# Altium schematic symbol library Schlib Resistencias.SchLib: 107 symbols
Pins are listed as number, name and electrical type; pins without a type are passive.

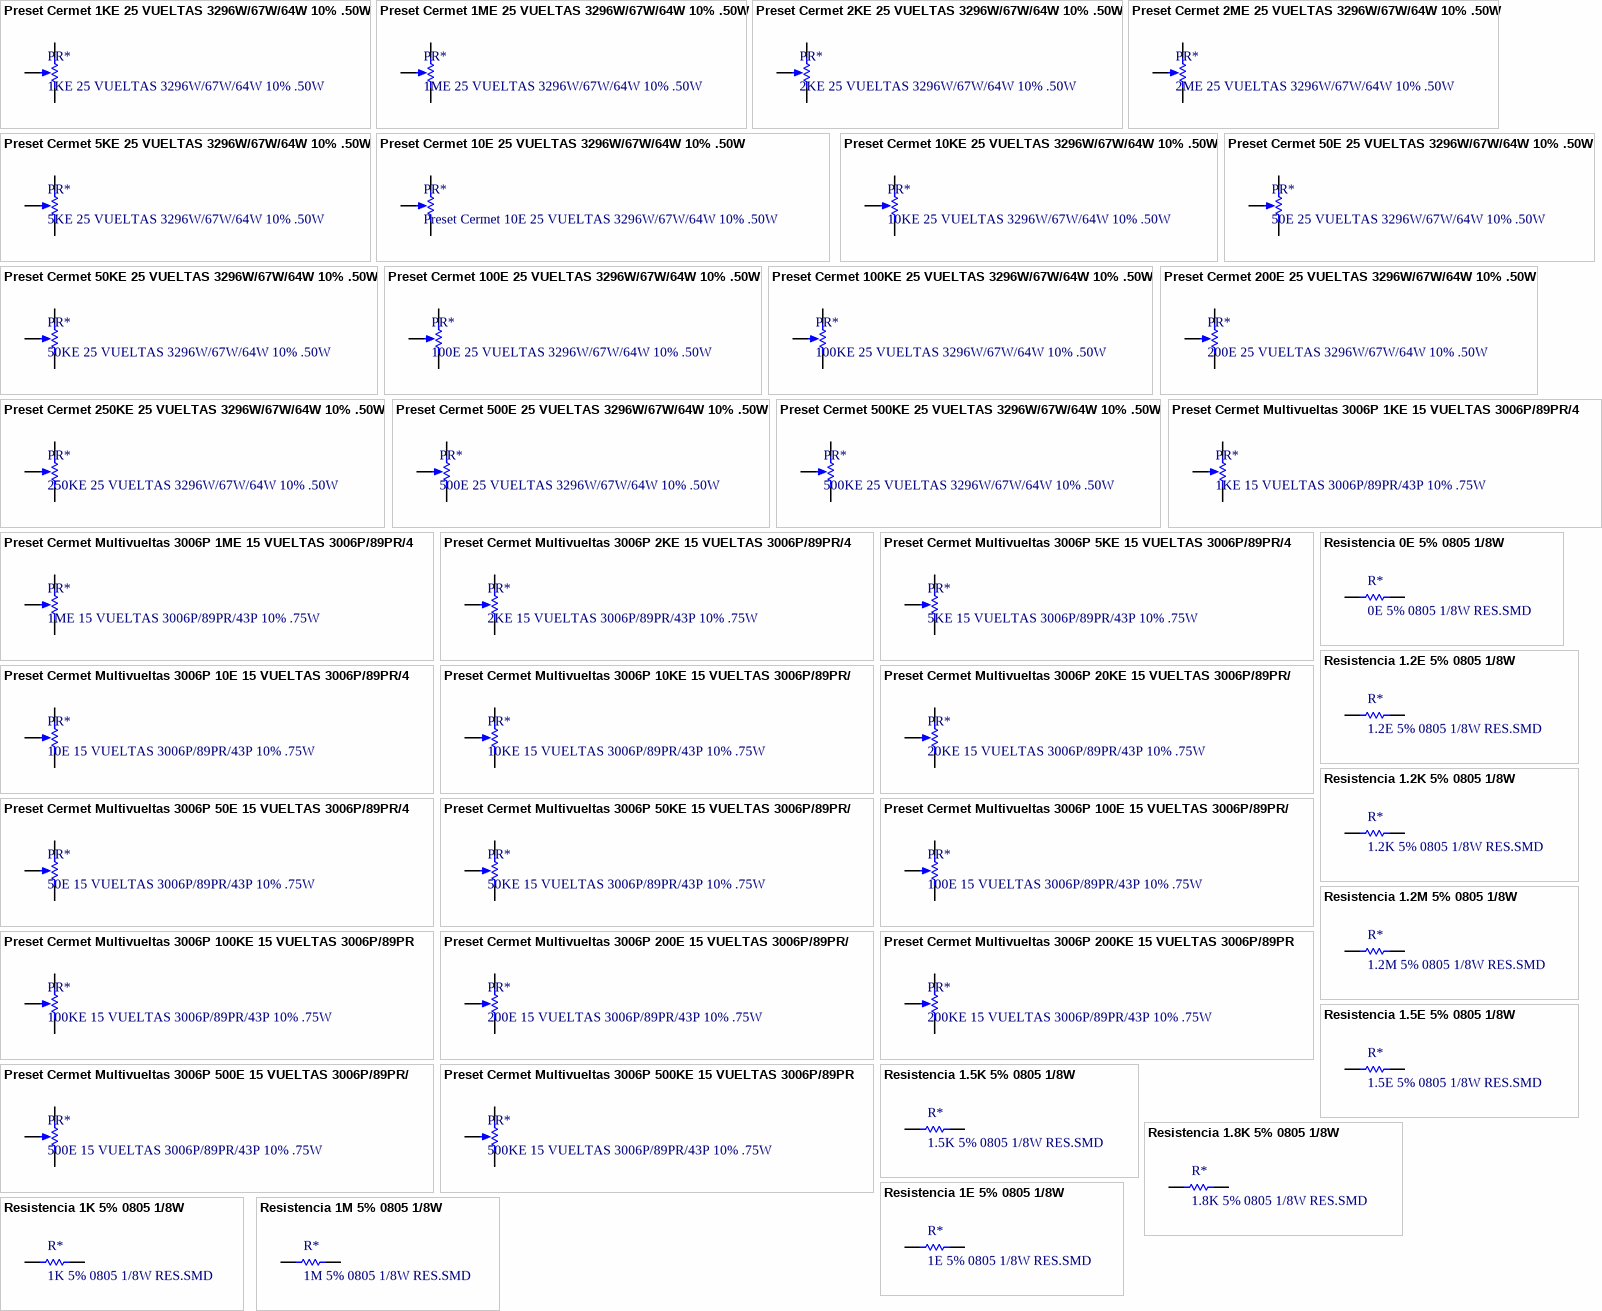
[diagram p0: symbols Preset Cermet 1KE 25 VUELTAS 3296W/67W/64W 10% .50W to Resistencia 1M 5% 0805 1/8W]

## Preset Cermet 1KE 25 VUELTAS 3296W/67W/64W 10% .50W
designator PR*, comment 1KE 25 VUELTAS 3296W/67W/64W 10% .50W
COD. ELEMON: PR4316060
footprint Preset Cermet 3296
pins: 1 CCW, 2 Wiper, 3 CW

## Preset Cermet 1ME 25 VUELTAS 3296W/67W/64W 10% .50W
designator PR*, comment 1ME 25 VUELTAS 3296W/67W/64W 10% .50W
COD. ELEMON: PR4316150
footprint Preset Cermet 3296
pins: 1 CCW, 2 Wiper, 3 CW

## Preset Cermet 2KE 25 VUELTAS 3296W/67W/64W 10% .50W
designator PR*, comment 2KE 25 VUELTAS 3296W/67W/64W 10% .50W
COD. ELEMON: PR4316070
footprint Preset Cermet 3296
pins: 1 CCW, 2 Wiper, 3 CW

## Preset Cermet 2ME 25 VUELTAS 3296W/67W/64W 10% .50W
designator PR*, comment 2ME 25 VUELTAS 3296W/67W/64W 10% .50W
COD. ELEMON: PR4316160
footprint Preset Cermet 3296
pins: 1 CCW, 2 Wiper, 3 CW

## Preset Cermet 5KE 25 VUELTAS 3296W/67W/64W 10% .50W
designator PR*, comment 5KE 25 VUELTAS 3296W/67W/64W 10% .50W
COD. ELEMON: PR4316080
footprint Preset Cermet 3296
pins: 1 CCW, 2 Wiper, 3 CW

## Preset Cermet 10E 25 VUELTAS 3296W/67W/64W 10% .50W
designator PR*
10E 25 VUELTAS 3296W/67W/64W 10% .50W; COD. ELEMON: PR4316015
footprint Preset Cermet 3296
pins: 1 CCW, 2 Wiper, 3 CW

## Preset Cermet 10KE 25 VUELTAS 3296W/67W/64W 10% .50W
designator PR*, comment 10KE 25 VUELTAS 3296W/67W/64W 10% .50W
COD. ELEMON: PR4316090
footprint Preset Cermet 3296
pins: 1 CCW, 2 Wiper, 3 CW

## Preset Cermet 50E 25 VUELTAS 3296W/67W/64W 10% .50W
designator PR*, comment 50E 25 VUELTAS 3296W/67W/64W 10% .50W
COD. ELEMON: PR4316020
footprint Preset Cermet 3296
pins: 1 CCW, 2 Wiper, 3 CW

## Preset Cermet 50KE 25 VUELTAS 3296W/67W/64W 10% .50W
designator PR*, comment 50KE 25 VUELTAS 3296W/67W/64W 10% .50W
COD. ELEMON: PR4316110
footprint Preset Cermet 3296
pins: 1 CCW, 2 Wiper, 3 CW

## Preset Cermet 100E 25 VUELTAS 3296W/67W/64W 10% .50W
designator PR*, comment 100E 25 VUELTAS 3296W/67W/64W 10% .50W
COD. ELEMON: PR4316030
footprint Preset Cermet 3296
pins: 1 CCW, 2 Wiper, 3 CW

## Preset Cermet 100KE 25 VUELTAS 3296W/67W/64W 10% .50W
designator PR*, comment 100KE 25 VUELTAS 3296W/67W/64W 10% .50W
COD. ELEMON: PR4316120
footprint Preset Cermet 3296
pins: 1 CCW, 2 Wiper, 3 CW

## Preset Cermet 200E 25 VUELTAS 3296W/67W/64W 10% .50W
designator PR*, comment 200E 25 VUELTAS 3296W/67W/64W 10% .50W
COD. ELEMON: PR4316040
footprint Preset Cermet 3296
pins: 1 CCW, 2 Wiper, 3 CW

## Preset Cermet 250KE 25 VUELTAS 3296W/67W/64W 10% .50W
designator PR*, comment 250KE 25 VUELTAS 3296W/67W/64W 10% .50W
COD. ELEMON: PR4316130
footprint Preset Cermet 3296
pins: 1 CCW, 2 Wiper, 3 CW

## Preset Cermet 500E 25 VUELTAS 3296W/67W/64W 10% .50W
designator PR*, comment 500E 25 VUELTAS 3296W/67W/64W 10% .50W
COD. ELEMON: PR4316050
footprint Preset Cermet 3296
pins: 1 CCW, 2 Wiper, 3 CW

## Preset Cermet 500KE 25 VUELTAS 3296W/67W/64W 10% .50W
designator PR*, comment 500KE 25 VUELTAS 3296W/67W/64W 10% .50W
COD. ELEMON: PR4316140
footprint Preset Cermet 3296
pins: 1 CCW, 2 Wiper, 3 CW

## Preset Cermet Multivueltas 3006P 1KE 15 VUELTAS 3006P/89PR/43P 10% .75W
designator PR*, comment 1KE 15 VUELTAS 3006P/89PR/43P 10% .75W
COD. ELEMON: PR4306050
footprint RES-PRESET-3006P (PRESET CERMET 3006P)
pins: 1 CCW, 2 Wiper, 3 CW

## Preset Cermet Multivueltas 3006P 1ME 15 VUELTAS 3006P/89PR/43P 10% .75W
designator PR*, comment 1ME 15 VUELTAS 3006P/89PR/43P 10% .75W
COD. ELEMON: PR4306140
footprint RES-PRESET-3006P (PRESET CERMET 3006P)
pins: 1 CCW, 2 Wiper, 3 CW

## Preset Cermet Multivueltas 3006P 2KE 15 VUELTAS 3006P/89PR/43P 10% .75W
designator PR*, comment 2KE 15 VUELTAS 3006P/89PR/43P 10% .75W
COD. ELEMON: PR4306060
footprint RES-PRESET-3006P (PRESET CERMET 3006P)
pins: 1 CCW, 2 Wiper, 3 CW

## Preset Cermet Multivueltas 3006P 5KE 15 VUELTAS 3006P/89PR/43P 10% .75W
designator PR*, comment 5KE 15 VUELTAS 3006P/89PR/43P 10% .75W
COD. ELEMON: PR4306070
footprint RES-PRESET-3006P (PRESET CERMET 3006P)
pins: 1 CCW, 2 Wiper, 3 CW

## Preset Cermet Multivueltas 3006P 10E 15 VUELTAS 3006P/89PR/43P 10% .75W
designator PR*, comment 10E 15 VUELTAS 3006P/89PR/43P 10% .75W
COD. ELEMON: PR4306000
footprint RES-PRESET-3006P (PRESET CERMET 3006P)
pins: 1 CCW, 2 Wiper, 3 CW

## Preset Cermet Multivueltas 3006P 10KE 15 VUELTAS 3006P/89PR/43P 10% .75W
designator PR*, comment 10KE 15 VUELTAS 3006P/89PR/43P 10% .75W
COD. ELEMON: PR4306080
footprint RES-PRESET-3006P (PRESET CERMET 3006P)
pins: 1 CCW, 2 Wiper, 3 CW

## Preset Cermet Multivueltas 3006P 20KE 15 VUELTAS 3006P/89PR/43P 10% .75W
designator PR*, comment 20KE 15 VUELTAS 3006P/89PR/43P 10% .75W
COD. ELEMON: PR4306090
footprint RES-PRESET-3006P (PRESET CERMET 3006P)
pins: 1 CCW, 2 Wiper, 3 CW

## Preset Cermet Multivueltas 3006P 50E 15 VUELTAS 3006P/89PR/43P 10% .75W
designator PR*, comment 50E 15 VUELTAS 3006P/89PR/43P 10% .75W
COD. ELEMON: PR4306010
footprint RES-PRESET-3006P (PRESET CERMET 3006P)
pins: 1 CCW, 2 Wiper, 3 CW

## Preset Cermet Multivueltas 3006P 50KE 15 VUELTAS 3006P/89PR/43P 10% .75W
designator PR*, comment 50KE 15 VUELTAS 3006P/89PR/43P 10% .75W
COD. ELEMON: PR4306100
footprint RES-PRESET-3006P (PRESET CERMET 3006P)
pins: 1 CCW, 2 Wiper, 3 CW

## Preset Cermet Multivueltas 3006P 100E 15 VUELTAS 3006P/89PR/43P 10% .75W
designator PR*, comment 100E 15 VUELTAS 3006P/89PR/43P 10% .75W
COD. ELEMON: PR4306020
footprint RES-PRESET-3006P (PRESET CERMET 3006P)
pins: 1 CCW, 2 Wiper, 3 CW

## Preset Cermet Multivueltas 3006P 100KE 15 VUELTAS 3006P/89PR/43P 10% .75W
designator PR*, comment 100KE 15 VUELTAS 3006P/89PR/43P 10% .75W
COD. ELEMON: PR4306110
footprint RES-PRESET-3006P (PRESET CERMET 3006P)
pins: 1 CCW, 2 Wiper, 3 CW

## Preset Cermet Multivueltas 3006P 200E 15 VUELTAS 3006P/89PR/43P 10% .75W
designator PR*, comment 200E 15 VUELTAS 3006P/89PR/43P 10% .75W
COD. ELEMON: PR4306030
footprint RES-PRESET-3006P (PRESET CERMET 3006P)
pins: 1 CCW, 2 Wiper, 3 CW

## Preset Cermet Multivueltas 3006P 200KE 15 VUELTAS 3006P/89PR/43P 10% .75W
designator PR*, comment 200KE 15 VUELTAS 3006P/89PR/43P 10% .75W
COD. ELEMON: PR4306120
footprint RES-PRESET-3006P (PRESET CERMET 3006P)
pins: 1 CCW, 2 Wiper, 3 CW

## Preset Cermet Multivueltas 3006P 500E 15 VUELTAS 3006P/89PR/43P 10% .75W
designator PR*, comment 500E 15 VUELTAS 3006P/89PR/43P 10% .75W
COD. ELEMON: PR4306040
footprint RES-PRESET-3006P (PRESET CERMET 3006P)
pins: 1 CCW, 2 Wiper, 3 CW

## Preset Cermet Multivueltas 3006P 500KE 15 VUELTAS 3006P/89PR/43P 10% .75W
designator PR*, comment 500KE 15 VUELTAS 3006P/89PR/43P 10% .75W
COD. ELEMON: PR4306130
footprint RES-PRESET-3006P (PRESET CERMET 3006P)
pins: 1 CCW, 2 Wiper, 3 CW

## Resistencia 0E 5% 0805 1/8W
designator R*, comment 0E 5% 0805 1/8W RES.SMD
COD. ELEMON: RS3895900
footprint RES.SMD.000 (5% 0805 1/8W RES.SMD)
pins: 1, 2

## Resistencia 1.2E 5% 0805 1/8W
designator R*, comment 1.2E 5% 0805 1/8W RES.SMD
COD. ELEMON: RS3896010
footprint RES.SMD.1R2 (5% 0805 1/8W RES.SMD)
pins: 1, 2

## Resistencia 1.2K 5% 0805 1/8W
designator R*, comment 1.2K 5% 0805 1/8W RES.SMD
COD. ELEMON: RS3896190
footprint RES.SMD.122 (5% 0805 1/8W RES.SMD)
pins: 1, 2

## Resistencia 1.2M 5% 0805 1/8W
designator R*, comment 1.2M 5% 0805 1/8W RES.SMD
COD. ELEMON: RS3896370
footprint RES.SMD.125 (5% 0805 1/8W RES.SMD)
pins: 1, 2

## Resistencia 1.5E 5% 0805 1/8W
designator R*, comment 1.5E 5% 0805 1/8W RES.SMD
COD. ELEMON: RS3896015
footprint RES.SMD.1R5 (5% 0805 1/8W RES.SMD)
pins: 1, 2

## Resistencia 1.5K 5% 0805 1/8W
designator R*, comment 1.5K 5% 0805 1/8W RES.SMD
COD. ELEMON: RS3896195
footprint RES.SMD.152 (5% 0805 1/8W RES.SMD)
pins: 1, 2

## Resistencia 1.8K 5% 0805 1/8W
designator R*, comment 1.8K 5% 0805 1/8W RES.SMD
COD. ELEMON: RS3896200
footprint RES.SMD.182 (5% 0805 1/8W RES.SMD)
pins: 1, 2

## Resistencia 1E 5% 0805 1/8W
designator R*, comment 1E 5% 0805 1/8W RES.SMD
COD. ELEMON: RS3896005
footprint RES.SMD.1R0 (5% 0805 1/8W RES.SMD)
pins: 1, 2

## Resistencia 1K 5% 0805 1/8W
designator R*, comment 1K 5% 0805 1/8W RES.SMD
COD. ELEMON: RS3896185; COD. FV: CE.RES.0012
footprint RES.SMD.102 (5% 0805 1/8W RES.SMD)
pins: 1, 2

## Resistencia 1M 5% 0805 1/8W
designator R*, comment 1M 5% 0805 1/8W RES.SMD
COD. ELEMON: RS3896365
footprint RES.SMD.105 (5% 0805 1/8W RES.SMD)
pins: 1, 2

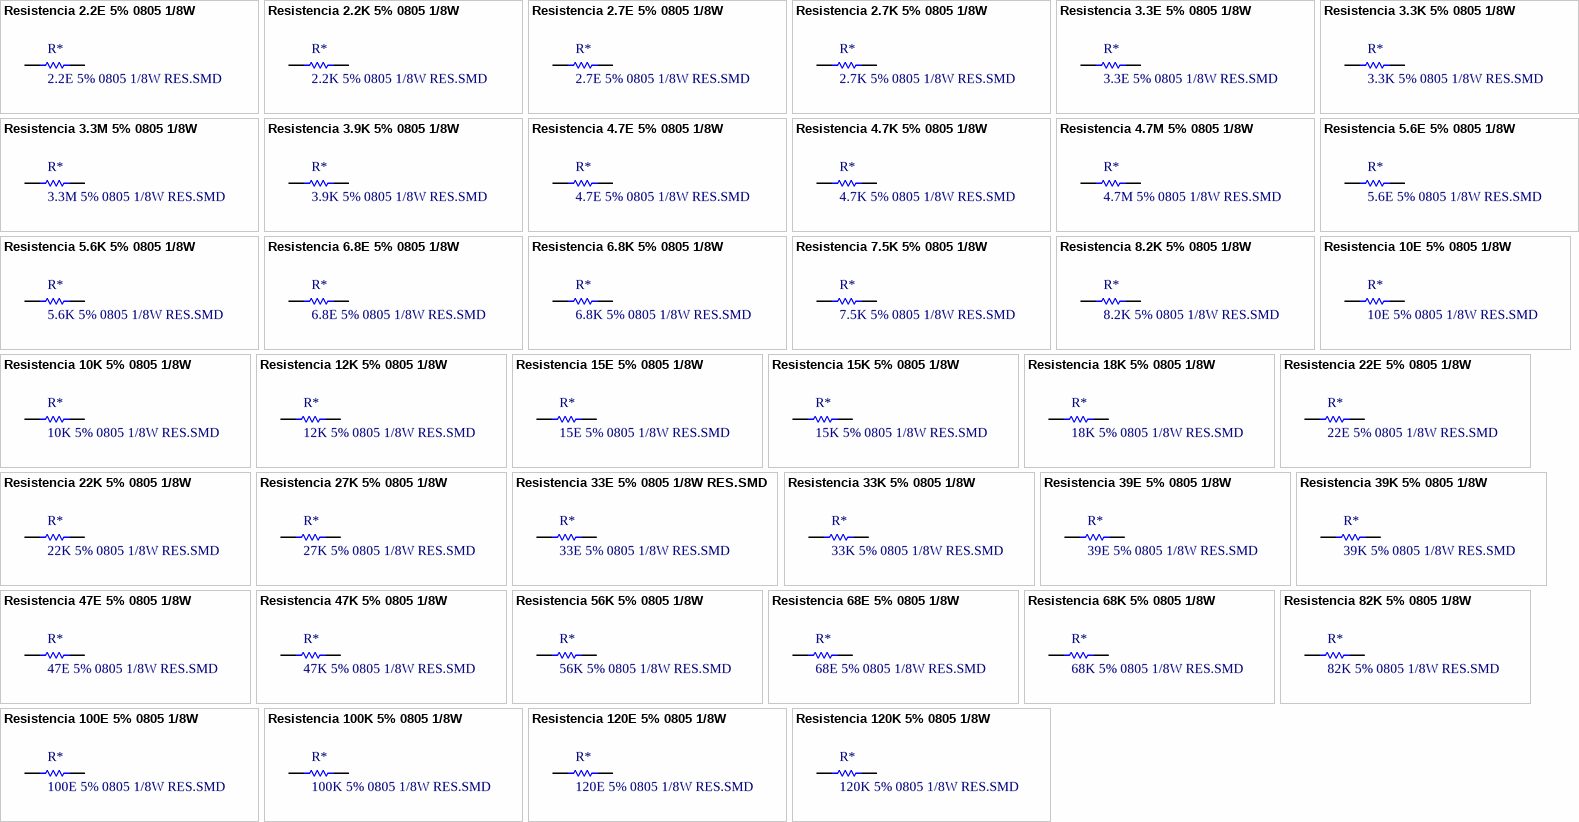
[diagram p1: symbols Resistencia 2.2E 5% 0805 1/8W to Resistencia 120K 5% 0805 1/8W]

## Resistencia 2.2E 5% 0805 1/8W
designator R*, comment 2.2E 5% 0805 1/8W RES.SMD
COD. ELEMON: RS3896025
footprint RES.SMD.2R2 (5% 0805 1/8W RES.SMD)
pins: 1, 2

## Resistencia 2.2K 5% 0805 1/8W
designator R*, comment 2.2K 5% 0805 1/8W RES.SMD
COD. ELEMON: RS3896205
footprint RES.SMD.222 (5% 0805 1/8W RES.SMD)
pins: 1, 2

## Resistencia 2.7E 5% 0805 1/8W
designator R*, comment 2.7E 5% 0805 1/8W RES.SMD
COD. ELEMON: RS3896030
footprint RES.SMD.2R7 (5% 0805 1/8W RES.SMD)
pins: 1, 2

## Resistencia 2.7K 5% 0805 1/8W
designator R*, comment 2.7K 5% 0805 1/8W RES.SMD
COD. ELEMON: RS3896210
footprint RES.SMD.272 (5% 0805 1/8W RES.SMD)
pins: 1, 2

## Resistencia 3.3E 5% 0805 1/8W
designator R*, comment 3.3E 5% 0805 1/8W RES.SMD
COD. ELEMON: RS3896035
footprint RES.SMD.3R3 (5% 0805 1/8W RES.SMD)
pins: 1, 2

## Resistencia 3.3K 5% 0805 1/8W
designator R*, comment 3.3K 5% 0805 1/8W RES.SMD
COD. ELEMON: RS3896215
footprint RES.SMD.332 (5% 0805 1/8W RES.SMD)
pins: 1, 2

## Resistencia 3.3M 5% 0805 1/8W
designator R*, comment 3.3M 5% 0805 1/8W RES.SMD
COD. ELEMON: RS3896390
footprint RES.SMD.335 (5% 0805 1/8W RES.SMD)
pins: 1, 2

## Resistencia 3.9K 5% 0805 1/8W
designator R*, comment 3.9K 5% 0805 1/8W RES.SMD
COD. ELEMON: RS3896220
footprint RES.SMD.392 (5% 0805 1/8W RES.SMD)
pins: 1, 2

## Resistencia 4.7E 5% 0805 1/8W
designator R*, comment 4.7E 5% 0805 1/8W RES.SMD
COD. ELEMON: RS3896045
footprint RES.SMD.4R7 (5% 0805 1/8W RES.SMD)
pins: 1, 2

## Resistencia 4.7K 5% 0805 1/8W
designator R*, comment 4.7K 5% 0805 1/8W RES.SMD
COD. ELEMON: RS3896225
footprint RES.SMD.472 (5% 0805 1/8W RES.SMD)
pins: 1, 2

## Resistencia 4.7M 5% 0805 1/8W
designator R*, comment 4.7M 5% 0805 1/8W RES.SMD
COD. ELEMON: RS3897000
footprint RES.SMD.475 (5% 0805 1/8W RES.SMD)
pins: 1, 2

## Resistencia 5.6E 5% 0805 1/8W
designator R*, comment 5.6E 5% 0805 1/8W RES.SMD
COD. ELEMON: RS3896050
footprint RES.SMD.5R6 (5% 0805 1/8W RES.SMD)
pins: 1, 2

## Resistencia 5.6K 5% 0805 1/8W
designator R*, comment 5.6K 5% 0805 1/8W RES.SMD
COD. ELEMON: RS3896230
footprint RES.SMD.562 (5% 0805 1/8W RES.SMD)
pins: 1, 2

## Resistencia 6.8E 5% 0805 1/8W
designator R*, comment 6.8E 5% 0805 1/8W RES.SMD
COD. ELEMON: RS3896055
footprint RES.SMD.6R8 (5% 0805 1/8W RES.SMD)
pins: 1, 2

## Resistencia 6.8K 5% 0805 1/8W
designator R*, comment 6.8K 5% 0805 1/8W RES.SMD
COD. ELEMON: RS3896233
footprint RES.SMD.682 (5% 0805 1/8W RES.SMD)
pins: 1, 2

## Resistencia 7.5K 5% 0805 1/8W
designator R*, comment 7.5K 5% 0805 1/8W RES.SMD
COD. ELEMON: RS3896237
footprint RES.SMD.752 (5% 0805 1/8W RES.SMD)
pins: 1, 2

## Resistencia 8.2K 5% 0805 1/8W
designator R*, comment 8.2K 5% 0805 1/8W RES.SMD
COD. ELEMON: RS3896240
footprint RES.SMD.822 (5% 0805 1/8W RES.SMD)
pins: 1, 2

## Resistencia 10E 5% 0805 1/8W
designator R*, comment 10E 5% 0805 1/8W RES.SMD
COD. ELEMON: RS3896065
footprint RES.SMD.100 (5% 0805 1/8W RES.SMD)
pins: 1, 2

## Resistencia 10K 5% 0805 1/8W
designator R*, comment 10K 5% 0805 1/8W RES.SMD
COD. ELEMON: RS3896245; COD. FV: CE.RES.0014
footprint RES.SMD.103 (5% 0805 1/8W RES.SMD)
pins: 1, 2

## Resistencia 12K 5% 0805 1/8W
designator R*, comment 12K 5% 0805 1/8W RES.SMD
COD. ELEMON: RS3896250
footprint RES.SMD.123 (5% 0805 1/8W RES.SMD)
pins: 1, 2

## Resistencia 15E 5% 0805 1/8W
designator R*, comment 15E 5% 0805 1/8W RES.SMD
COD. ELEMON: RS3896075
footprint RES.SMD.150 (5% 0805 1/8W RES.SMD)
pins: 1, 2

## Resistencia 15K 5% 0805 1/8W
designator R*, comment 15K 5% 0805 1/8W RES.SMD
COD. ELEMON: RS3896255
footprint RES.SMD.153 (5% 0805 1/8W RES.SMD)
pins: 1, 2

## Resistencia 18K 5% 0805 1/8W
designator R*, comment 18K 5% 0805 1/8W RES.SMD
COD. ELEMON: RS3896260
footprint RES.SMD.183 (5% 0805 1/8W RES.SMD)
pins: 1, 2

## Resistencia 22E 5% 0805 1/8W
designator R*, comment 22E 5% 0805 1/8W RES.SMD
COD. ELEMON: RS3896085
footprint RES.SMD.220 (5% 0805 1/8W RES.SMD)
pins: 1, 2

## Resistencia 22K 5% 0805 1/8W
designator R*, comment 22K 5% 0805 1/8W RES.SMD
COD. ELEMON: RS3896265
footprint RES.SMD.223 (5% 0805 1/8W RES.SMD)
pins: 1, 2

## Resistencia 27K 5% 0805 1/8W
designator R*, comment 27K 5% 0805 1/8W RES.SMD
COD. ELEMON: RS3896270
footprint RES.SMD.273 (5% 0805 1/8W RES.SMD)
pins: 1, 2

## Resistencia 33E 5% 0805 1/8W RES.SMD
designator R*, comment 33E 5% 0805 1/8W RES.SMD
COD. ELEMON: RS3896095; COD. FV: CE.RES.0013
footprint RES.SMD.330 (5% 0805 1/8W RES.SMD)
pins: 1, 2

## Resistencia 33K 5% 0805 1/8W
designator R*, comment 33K 5% 0805 1/8W RES.SMD
COD. ELEMON: RS3896275; COD. FV: CE.RES.0015
footprint RES.SMD.333 (5% 0805 1/8W RES.SMD)
pins: 1, 2

## Resistencia 39E 5% 0805 1/8W
designator R*, comment 39E 5% 0805 1/8W RES.SMD
COD: ELEMON: RS3896100
footprint RES.SMD.390 (5% 0805 1/8W RES.SMD)
pins: 1, 2

## Resistencia 39K 5% 0805 1/8W
designator R*, comment 39K 5% 0805 1/8W RES.SMD
COD. ELEMON: RS3896280
footprint RES.SMD.393 (5% 0805 1/8W RES.SMD)
pins: 1, 2

## Resistencia 47E 5% 0805 1/8W
designator R*, comment 47E 5% 0805 1/8W RES.SMD
COD. ELEMON: RS3896105
footprint RES.SMD.470 (5% 0805 1/8W RES.SMD)
pins: 1, 2

## Resistencia 47K 5% 0805 1/8W
designator R*, comment 47K 5% 0805 1/8W RES.SMD
COD. ELEMON: RS3896285
footprint RES.SMD.473 (5% 0805 1/8W RES.SMD)
pins: 1, 2

## Resistencia 56K 5% 0805 1/8W
designator R*, comment 56K 5% 0805 1/8W RES.SMD
COD. ELEMON: RS3896290
footprint RES.SMD.563 (5% 0805 1/8W RES.SMD)
pins: 1, 2

## Resistencia 68E 5% 0805 1/8W
designator R*, comment 68E 5% 0805 1/8W RES.SMD
COD. ELEMON: RS3896115
footprint RES.SMD.680 (5% 0805 1/8W RES.SMD)
pins: 1, 2

## Resistencia 68K 5% 0805 1/8W
designator R*, comment 68K 5% 0805 1/8W RES.SMD
COD. ELEMON: RS3896295
footprint RES.SMD.683 (5% 0805 1/8W RES.SMD)
pins: 1, 2

## Resistencia 82K 5% 0805 1/8W
designator R*, comment 82K 5% 0805 1/8W RES.SMD
COD. ELEMON: RS3896300
footprint RES.SMD.823 (5% 0805 1/8W RES.SMD)
pins: 1, 2

## Resistencia 100E 5% 0805 1/8W
designator R*, comment 100E 5% 0805 1/8W RES.SMD
COD. ELEMON: RS3896125; COD. FV: CE.RES.0011
footprint RES.SMD.101 (5% 0805 1/8W RES.SMD)
pins: 1, 2

## Resistencia 100K 5% 0805 1/8W
designator R*, comment 100K 5% 0805 1/8W RES.SMD
COD. ELEMON: RS3896305
footprint RES.SMD.104 (5% 0805 1/8W RES.SMD)
pins: 1, 2

## Resistencia 120E 5% 0805 1/8W
designator R*, comment 120E 5% 0805 1/8W RES.SMD
COD. ELEMON: RS3896130
footprint RES.SMD.121 (5% 0805 1/8W RES.SMD)
pins: 1, 2

## Resistencia 120K 5% 0805 1/8W
designator R*, comment 120K 5% 0805 1/8W RES.SMD
COD. ELEMON: RS3896310
footprint RES.SMD.124 (5% 0805 1/8W RES.SMD)
pins: 1, 2

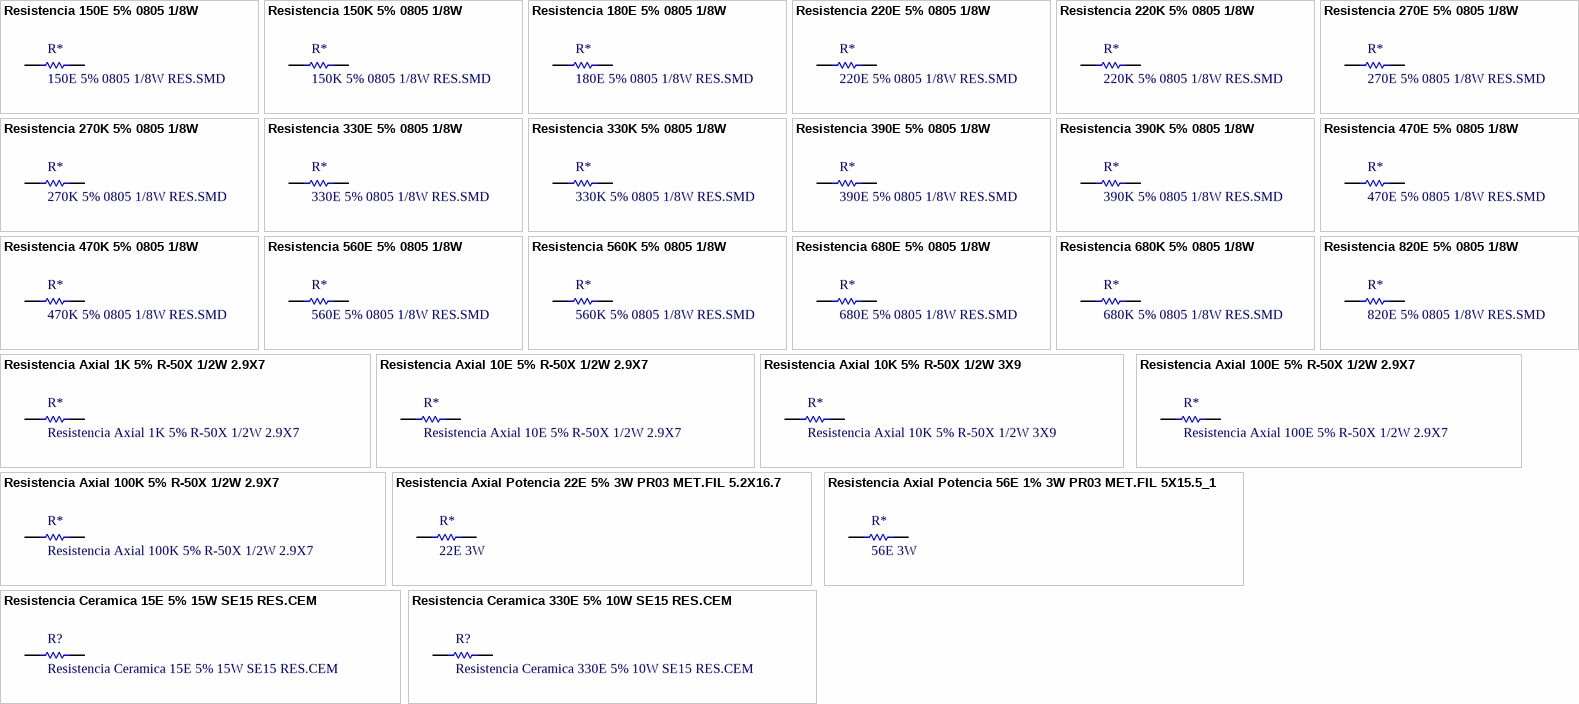
[diagram p2: symbols Resistencia 150E 5% 0805 1/8W to Resistencia Ceramica 330E 5% 10W SE15 RES.CEM]

## Resistencia 150E 5% 0805 1/8W
designator R*, comment 150E 5% 0805 1/8W RES.SMD
COD. ELEMON: RS3896135
footprint RES.SMD.151 (5% 0805 1/8W RES.SMD)
pins: 1, 2

## Resistencia 150K 5% 0805 1/8W
designator R*, comment 150K 5% 0805 1/8W RES.SMD
COD. ELEMON: RS3896315
footprint RES.SMD.154 (5% 0805 1/8W RES.SMD)
pins: 1, 2

## Resistencia 180E 5% 0805 1/8W
designator R*, comment 180E 5% 0805 1/8W RES.SMD
COD. ELEMON: RS3896140
footprint RES.SMD.181 (5% 0805 1/8W RES.SMD)
pins: 1, 2

## Resistencia 220E 5% 0805 1/8W
designator R*, comment 220E 5% 0805 1/8W RES.SMD
COD. ELEMON: RS3896145
footprint RES.SMD.221 (5% 0805 1/8W RES.SMD)
pins: 1, 2

## Resistencia 220K 5% 0805 1/8W
designator R*, comment 220K 5% 0805 1/8W RES.SMD
COD. ELEMON: RS3896325
footprint RES.SMD.224 (5% 0805 1/8W RES.SMD)
pins: 1, 2

## Resistencia 270E 5% 0805 1/8W
designator R*, comment 270E 5% 0805 1/8W RES.SMD
COD. ELEMON: RS3896150
footprint RES.SMD.271 (5% 0805 1/8W RES.SMD)
pins: 1, 2

## Resistencia 270K 5% 0805 1/8W
designator R*, comment 270K 5% 0805 1/8W RES.SMD
COD. ELEMON: RS3896330
footprint RES.SMD.274 (5% 0805 1/8W RES.SMD)
pins: 1, 2

## Resistencia 330E 5% 0805 1/8W
designator R*, comment 330E 5% 0805 1/8W RES.SMD
COD. ELEMON: RS3896155
footprint RES.SMD.331 (5% 0805 1/8W RES.SMD)
pins: 1, 2

## Resistencia 330K 5% 0805 1/8W
designator R*, comment 330K 5% 0805 1/8W RES.SMD
COD. ELEMON: RS3896335
footprint RES.SMD.334 (5% 0805 1/8W RES.SMD)
pins: 1, 2

## Resistencia 390E 5% 0805 1/8W
designator R*, comment 390E 5% 0805 1/8W RES.SMD
COD. ELEMON: RS3896160
footprint RES.SMD.391 (5% 0805 1/8W RES.SMD)
pins: 1, 2

## Resistencia 390K 5% 0805 1/8W
designator R*, comment 390K 5% 0805 1/8W RES.SMD
COD. ELEMON: RS3896340
footprint RES.SMD.394 (5% 0805 1/8W RES.SMD)
pins: 1, 2

## Resistencia 470E 5% 0805 1/8W
designator R*, comment 470E 5% 0805 1/8W RES.SMD
COD. ELEMON: RS3896165
footprint RES.SMD.471 (5% 0805 1/8W RES.SMD)
pins: 1, 2

## Resistencia 470K 5% 0805 1/8W
designator R*, comment 470K 5% 0805 1/8W RES.SMD
COD. ELEMON: RS3896345
footprint RES.SMD.474 (5% 0805 1/8W RES.SMD)
pins: 1, 2

## Resistencia 560E 5% 0805 1/8W
designator R*, comment 560E 5% 0805 1/8W RES.SMD
COD. ELEMON: RS3896170
footprint RES.SMD.561 (5% 0805 1/8W RES.SMD)
pins: 1, 2

## Resistencia 560K 5% 0805 1/8W
designator R*, comment 560K 5% 0805 1/8W RES.SMD
COD. ELEMON: RS3896350
footprint RES.SMD.564 (5% 0805 1/8W RES.SMD)
pins: 1, 2

## Resistencia 680E 5% 0805 1/8W
designator R*, comment 680E 5% 0805 1/8W RES.SMD
COD. ELEMON: RS3896175
footprint RES.SMD.681 (5% 0805 1/8W RES.SMD)
pins: 1, 2

## Resistencia 680K 5% 0805 1/8W
designator R*, comment 680K 5% 0805 1/8W RES.SMD
COD. ELEMON: RS3896355
footprint RES.SMD.684 (5% 0805 1/8W RES.SMD)
pins: 1, 2

## Resistencia 820E 5% 0805 1/8W
designator R*, comment 820E 5% 0805 1/8W RES.SMD
COD. ELEMON: RS3896180
footprint RES.SMD.821 (5% 0805 1/8W RES.SMD)
pins: 1, 2

## Resistencia Axial 1K 5% R-50X 1/2W 2.9X7
designator R*
COD. ELEMON: RS3956200
footprint RES-AXIAL-PITCH11-1K
pins: 1, 2

## Resistencia Axial 10E 5% R-50X 1/2W 2.9X7
designator R*
COD. ELEMON: RS3956070
footprint RES-AXIAL-PITCH11-10R
pins: 1, 2

## Resistencia Axial 10K 5% R-50X 1/2W 3X9
designator R*
COD. ELEMON: RS3956250
footprint RES-AXIAL-PITCH11-10K
pins: 1, 2

## Resistencia Axial 100E 5% R-50X 1/2W 2.9X7
designator R*
COD. ELEMON: RS3956135
footprint RES-AXIAL-PITCH11-100R
pins: 1, 2

## Resistencia Axial 100K 5% R-50X 1/2W 2.9X7
designator R*
COD. ELEMON: RS3956308
footprint RES-AXIAL-PITCH11-100K
pins: 1, 2

## Resistencia Axial Potencia 22E 5% 3W PR03 MET.FIL 5.2X16.7
designator R*, comment 22E 3W
Resistencia Axial Potencia 22E 5% 3W PR03 MET.FIL 5.2X16.7; COD. ELEMON: RS4056085; COD. FV: CE.RES.0016
footprint 22E 3W (22E  3W)
pins: 1, 2

## Resistencia Axial Potencia 56E 1% 3W PR03 MET.FIL 5X15.5_1
designator R*, comment 56E 3W
Resistencia Axial Potencia 56E 1% 3W PR03 MET.FIL 5X15.5; COD. ELEMON: RS4056110; COD. FV: CE.RES.0017
footprint 56E 3W (56E  3W)
pins: 1, 2

## Resistencia Ceramica 15E 5% 15W SE15 RES.CEM
designator R?
COD. ELEMON: RS4176075
footprint RES-CERAMICA-15W (Resistenci ceramica 15W)
pins: 1, 2

## Resistencia Ceramica 330E 5% 10W SE15 RES.CEM
designator R?
COD. ELEMON: RS4096155
footprint RES-CERAMICA-10W (Resistenci ceramica 10W)
pins: 1, 2